# Altium integrated library AK300_2-5_0-GRAU.IntLib: 1 symbol
Pins are listed as number, name and electrical type; pins without a type are passive.

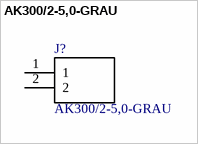
[diagram p0: symbol AK300/2-5,0-GRAU]

## AK300/2-5,0-GRAU
designator J?
/ Terminal block; 5mm; angled 45Â°; ways: 2 /; MF: PTR Messtechnik; SnapEDA_Link: https://www.snapeda.com/parts/AK300/2-5,0-GRAU/PTR%20Messtechnik/view-part/556894/?ref=snap; Price: None; Availability: Unavailable; MP: AK300/2-5,0-GRAU; Package: None; Value: *
footprint *PTR_AK300/2-5,0-GRAU
pins: 1, 2